# Altium footprint library CircuitWorks-DIP16.PcbLib: 1 footprints
Each footprint in its own frame and in the unit in brackets; x right, y up, seen from the top. Pads: shape width x height; smd on the part's side, far side on the other; paste and mask are expansions set on the pad; w line width, h text height; cw(c..) or ccw(c..) is an arc to the next point about the centre after c.
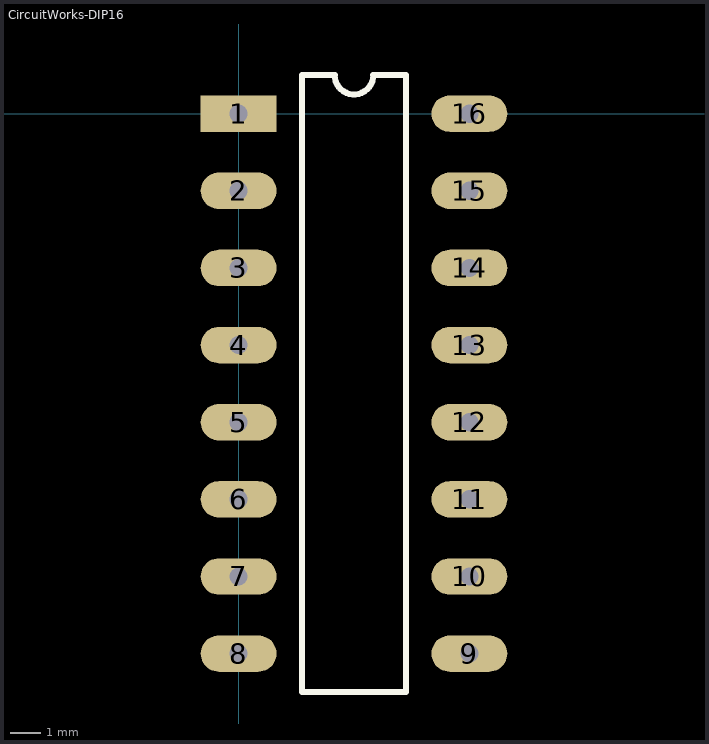
[diagram p0: the footprint, top view; thin cyan lines are the x and y axes]

## CircuitWorks-DIP16 [mm]
pads (16):
  rect 2.5x1.2 hole 0.6: 1(0,0)
  oval 2.5x1.2 hole 0.6: 2(0,-2.54) 3(0,-5.08) 4(0,-7.62) 5(0,-10.16) 6(0,-12.7) 7(0,-15.24) 8(0,-17.78) 9(7.6,-17.78) 10(7.6,-15.24) 11(7.6,-12.7) 12(7.6,-10.16) 13(7.6,-7.62) 14(7.6,-5.08) 15(7.6,-2.54) 16(7.6,0)
Top Overlay:
  lines w0.2: 2.085,-19.05 2.085,1.27 3.165,1.27 ccw(c3.8,1.27) 4.435,1.27 5.515,1.27 5.515,-19.05 2.085,-19.05
3D body "CircuitWorks-DIP16.step": height 4.19, standoff -2.57, extent -0.127,-19.685 7.747,1.905